# EAGLE library part LM2267X (library X893)
http://www.ti.com/lit/ds/snvs591i/snvs591i.pdf
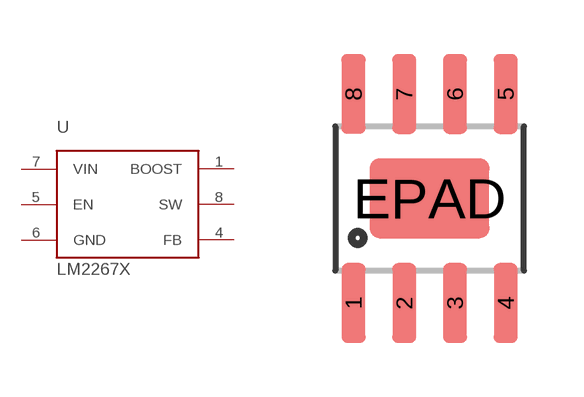
[diagram p147: symbol with the pads of SO08-EPAD; footprint SO08-EPAD]

Designator prefix U

## LM2267X  [SO08-EPAD]
1  BOOST  pas
4  FB  pas
5  EN  pas
6  GND  sup
7  VIN  pas
8  SW  pas

## Footprint SO08-EPAD (pad centres in mm)
Small Outline Package Fits JEDEC packages (narrow SOIC-8)
smd 0.6 x 2: 1 -1.905,-2.616; 2 -0.635,-2.616; 3 0.635,-2.616; 4 1.905,-2.616; 5 1.905,2.616; 6 0.635,2.616; 7 -0.635,2.616
smd 0.61 x 2: 8 -1.905,2.616
smd 3 x 2: EPAD 0,0